# Altium schematic symbol library CAT24C256WI-G.SchLib: 1 symbol
Pins are listed as number, name and electrical type; pins without a type are passive.

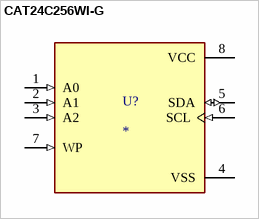
[diagram p0: symbol CAT24C256WI-G]

## CAT24C256WI-G
designator U?
EEPROM Memory IC 256Kb (32K x 8) IÂ²C 1MHz 500ns 8-SOIC; MP: CAT24C256WI-G; MF: {'manufacturer': u'ON Semiconductor'}; Price: None; Package: None; Availability: Unavailable; Value: *
footprint SOIC127P600X175-8N
pins: 1 A0 (in), 2 A1 (in), 3 A2 (in), 4 VSS (power), 5 SDA (io), 6 SCL (in), 7 WP (in), 8 VCC (power)